# Altium schematic symbol library PESD4USB3UTBS-QX.SchLib: 1 symbol
Pins are listed as number, name and electrical type; pins without a type are passive.

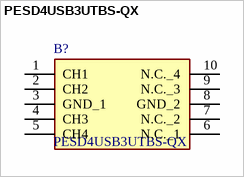
[diagram p0: symbol PESD4USB3UTBS-QX]

## PESD4USB3UTBS-QX
designator B?
plastic, leadless thin small outline package with SideWettable Flanks (SWF); 10 terminals; 0.5 mm pitch; 2.5 mm x 1 mm x 0.75 mm body; Manufacturer_Name: Nexperia; Geometry.Height: 0.8mm; Mouser Part Number: *; Mouser Price/Stock: *; Manufacturer_Part_Number: PESD4USB3UTBS-QX; Datasheet Link: https://www.digikey.ph/en/products/detail/nexperia-usa-inc/PESD4USB3UTBS-QX/19109985?msockid=39f1ec84d77b6f4428b7f904d6676eed
footprint PESD4USB3UTBSQX
pins: 1 CH1, 2 CH2, 3 GND_1, 4 CH3, 5 CH4, 6 N.C._1, 7 N.C._2, 8 GND_2, 9 N.C._3, 10 N.C._4